# Altium schematic symbol library Analog Devices Amplifiers and Linear Comparators.SchLib: 160 symbols (part 8 of 9)
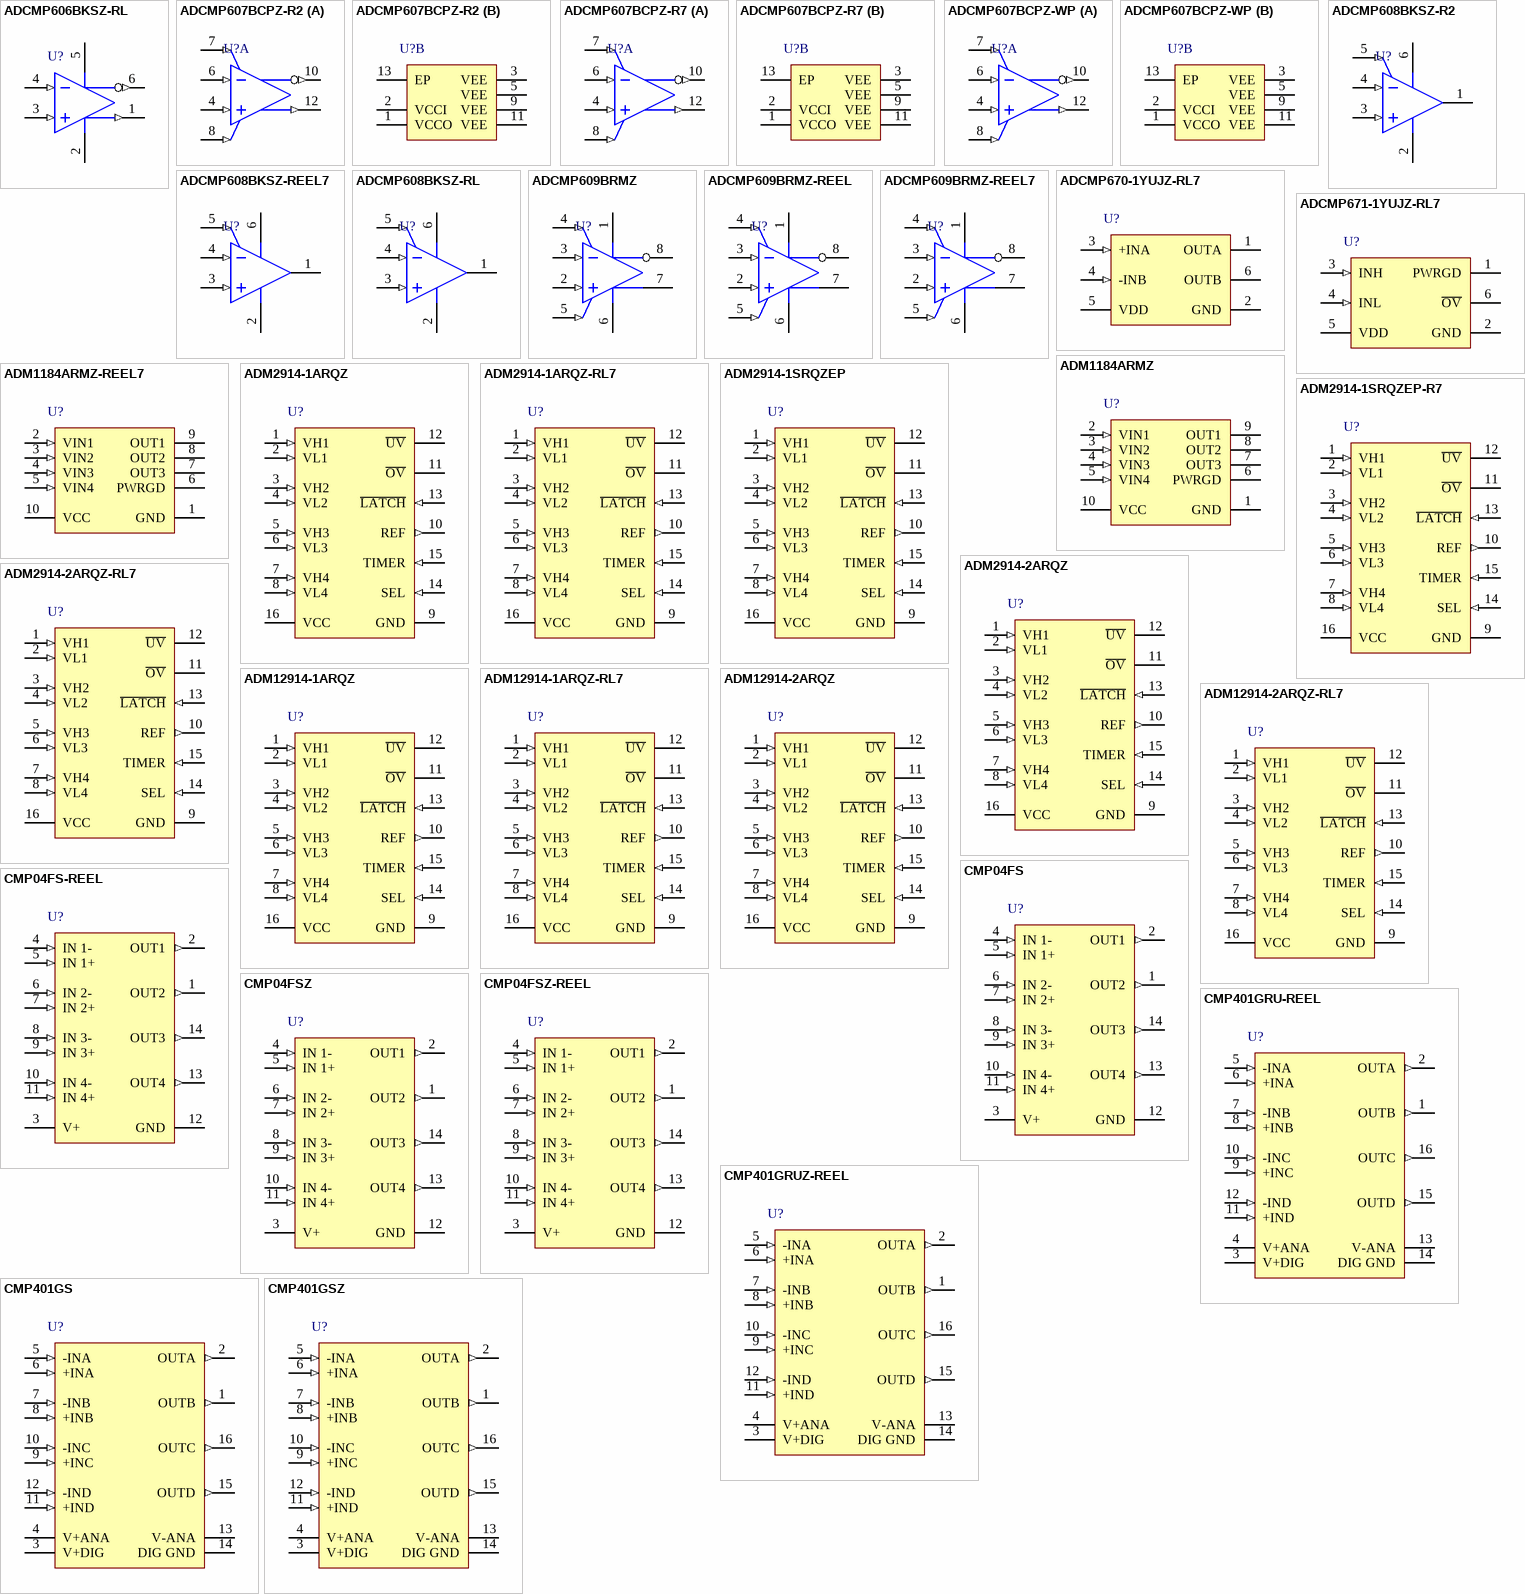
[diagram p14: symbols ADCMP606BKSZ-RL to CMP401GSZ]

## ADCMP607BCPZ-WP
designator U?
Rail-to-Rail, Very Fast, Single-Supply CML Comparator, 2.5 to 5.5 V, 1.25 ns Delay, Industrial, 12-pin QFN (CP-12-1), Tray; Manufacturer: Analog Devices; PartNumber: ADCMP607BCPZ-WP; Input Range (V): -0.2 to VCC+0.2; Total Power (mW): 62mW; DatasheetVersion: Rev. A; PackageReference: CP-12-1; PackageDescription: 12-Pin Lead Frame Chip Scale Package, Body 3 x 3 mm, Pitch 0.5 mm; Supplier 1: Digi-Key; Supplier Part Number 1: ADCMP607BCPZ-WP-ND; Supplier 2: Mouser; Supplier Part Number 2: 584-ADCMP607BCPZ-WP; Packing: Tray; Voltage Supply (V): 2.5 to 5.5; Mounting Technology: Surface Mount; Code_JEDEC: MO-220-VEED-1; ComponentLink1Description: Manufacturer URL; ComponentLink1URL: http://www.analog.com/en/index.html; ComponentLink2Description: Datasheet; ComponentLink2URL: http://www.analog.com/static/imported-files/data_sheets/ADCMP606_607.pdf; ComponentLink3Description: Package Specification; ComponentLink3URL: http://www.analog.com/static/imported-files/packages/CP_12_1.pdf; ComponentLink4Description: URL Link1; ComponentLink4URL: Product URL:http://www.analog.com/en/special-linear-functions/comparators/adcmp607/products/product.html
footprint ADI-CP-12-1_N (QFN, 12-Leads, Body 3x3mm, Pitch 0.5mm, Thermal Pad 1.3x1.3mm, IPC Medium Density)
footprint ADI-CP-12-1_L (QFN, 12-Leads, Body 3x3mm, Pitch 0.5mm, Thermal Pad 1.3x1.3mm, IPC High Density)
footprint ADI-CP-12-1_M (QFN, 12-Leads, Body 3x3mm, Pitch 0.5mm, Thermal Pad 1.3x1.3mm, IPC Low Density)
part A pins: 4 VP (in) "Noninverting Analog Input.", 6 VN (in) "Inverting Analog Input.", 7 SDN (in) "Shutdown. Drive this pin low to shut down the device.", 8 LE/HYS (in) "Latch/Hysteresis Control. Bias with resistor or current for hysteresis; drive low to latch.", 10 ~{Q} (out) "Inverting Output. Q\ is at Logic low if the analog voltage at the noninverting input, VP, is greater than the analog voltage at the inverting input, VN, if the comparator is in compare mode.", 12 Q (out) "Noninverting Output. Q is at Logic high if the analog voltage at the noninverting input, VP, is greater than the analog voltage at the inverting input, VN, if the comparator is in compare mode."
part B pins: 1 VCCO (power) "Output Section Supply.", 2 VCCI (power) "Input Section Supply.", 3 VEE (power) "Negative Supply Voltages.", 5 VEE (power) "Negative Supply Voltages.", 9 VEE (power) "Negative Supply Voltages.", 11 VEE (power) "Negative Supply Voltages.", 13 EP "The metallic back surface of the package is electrically connected to VEE. It can be left floating because Pin 3, Pin 5, Pin 9, and Pin 11 provide adequate electrical connection. It can also be soldered to the application (See Datasheet)"

## ADCMP608BKSZ-R2
designator U?
Rail-to-Rail, Fast, Low Power, Single-Supply TTL / CMOS Comparator, 2.5 to 5.5 V, 30 ns Delay, Industrial, 6-pin SOT23 (KS-6), Reel; Manufacturer: Analog Devices; PartNumber: ADCMP608BKSZ-R2; Input Range (V): -0.2 to VCC+0.2; Supply Current: 500uA; DatasheetVersion: Rev. 0; PackageVersion: 072809-A, 07/2009; PackageReference: KS-6; PackageDescription: 6-Pin Thin Shrink Small Outline Transistor Package, Body 2 x 1.25 mm, Pitch 0.65 mm; Supplier 1: Digi-Key; Supplier Part Number 1: ADCMP608BKSZ-R2TR-ND; Supplier 2: Digi-Key; Supplier Part Number 2: ADCMP608BKSZ-R2CT-ND; Supplier 3: Digi-Key; Supplier Part Number 3: ADCMP608BKSZ-R2DKR-ND; Supplier 4: Farnell; Supplier Part Number 4: 1331032RL; Supplier 5: Farnell; Supplier Part Number 5: 1331032; Supplier 6: Mouser; Supplier Part Number 6: 584-ADCMP608BKSZ-R2; Packing: Reel; Voltage Supply (V): 2.5 to 5.5; Mounting Technology: Surface Mount; Code_JEDEC: MO-203-AB; ComponentLink1Description: Manufacturer URL; ComponentLink1URL: http://www.analog.com/en/index.html; ComponentLink2Description: Datasheet; ComponentLink2URL: http://www.analog.com/static/imported-files/data_sheets/ADCMP608.pdf; ComponentLink3Description: Package Specification; ComponentLink3URL: http://www.analog.com/static/imported-files/packages/PKG_PDF/SC70(KS)/KS_6.pdf; ComponentLink4Description: URL Link1; ComponentLink4URL: Product URL:http://www.analog.com/en/special-linear-functions/comparators/adcmp608/products/product.html
footprint ADI-KS-6_N (SOT23, 6-Leads, Body 2x1.25mm, Pitch 0.65mm, IPC Medium Density)
footprint ADI-KS-6_L (SOT23, 6-Leads, Body 2x1.25mm, Pitch 0.65mm, IPC High Density)
footprint ADI-KS-6_M (SOT23, 6-Leads, Body 2x1.25mm, Pitch 0.65mm, IPC Low Density)
pins: 1 Q (hiz) "Noninverting Output. Q is at logic high if the analog voltage at the noninverting input, VP, is greater than the analog voltage at the inverting input, VN.", 2 VEE (power) "Negative Supply Voltage.", 3 VP (in) "Noninverting Analog Input.", 4 VN (in) "Inverting Analog Input.", 5 SDN (in) "Shutdown. Drive this pin low to shut down the device.", 6 VCC (power) "VCC Supply."

## ADCMP608BKSZ-REEL7
designator U?
Rail-to-Rail, Fast, Low Power, Single-Supply TTL / CMOS Comparator, 2.5 to 5.5 V, 30 ns Delay, Industrial, 6-pin SOT23 (KS-6), Reel; Manufacturer: Analog Devices; PartNumber: ADCMP608BKSZ-REEL7; Input Range (V): -0.2 to VCC+0.2; Supply Current: 500uA; DatasheetVersion: Rev. 0; PackageVersion: 072809-A, 07/2009; PackageReference: KS-6; PackageDescription: 6-Pin Thin Shrink Small Outline Transistor Package, Body 2 x 1.25 mm, Pitch 0.65 mm; Supplier 1: Digi-Key; Supplier Part Number 1: ADCMP608BKSZ-REEL7TR-ND; Supplier 2: Digi-Key; Supplier Part Number 2: ADCMP608BKSZ-REEL7CT-ND; Supplier 3: Digi-Key; Supplier Part Number 3: ADCMP608BKSZ-REEL7DKR-ND; Supplier 4: Mouser; Supplier Part Number 4: 584-ADCMP608BKSZR7; Packing: Reel; Voltage Supply (V): 2.5 to 5.5; Mounting Technology: Surface Mount; Code_JEDEC: MO-203-AB; ComponentLink1Description: Manufacturer URL; ComponentLink1URL: http://www.analog.com/en/index.html; ComponentLink2Description: Datasheet; ComponentLink2URL: http://www.analog.com/static/imported-files/data_sheets/ADCMP608.pdf; ComponentLink3Description: Package Specification; ComponentLink3URL: http://www.analog.com/static/imported-files/packages/PKG_PDF/SC70(KS)/KS_6.pdf; ComponentLink4Description: URL Link1; ComponentLink4URL: Product URL:http://www.analog.com/en/special-linear-functions/comparators/adcmp608/products/product.html
footprint ADI-KS-6_N (SOT23, 6-Leads, Body 2x1.25mm, Pitch 0.65mm, IPC Medium Density)
footprint ADI-KS-6_L (SOT23, 6-Leads, Body 2x1.25mm, Pitch 0.65mm, IPC High Density)
footprint ADI-KS-6_M (SOT23, 6-Leads, Body 2x1.25mm, Pitch 0.65mm, IPC Low Density)
pins: 1 Q (hiz) "Noninverting Output. Q is at logic high if the analog voltage at the noninverting input, VP, is greater than the analog voltage at the inverting input, VN.", 2 VEE (power) "Negative Supply Voltage.", 3 VP (in) "Noninverting Analog Input.", 4 VN (in) "Inverting Analog Input.", 5 SDN (in) "Shutdown. Drive this pin low to shut down the device.", 6 VCC (power) "VCC Supply."

## ADCMP608BKSZ-RL
designator U?
Rail-to-Rail, Fast, Low Power, Single-Supply TTL / CMOS Comparator, 2.5 to 5.5 V, 30 ns Delay, Industrial, 6-pin SOT23 (KS-6), Reel; Manufacturer: Analog Devices; PartNumber: ADCMP608BKSZ-RL; Input Range (V): -0.2 to VCC+0.2; Supply Current: 500uA; DatasheetVersion: Rev. 0; PackageVersion: 072809-A, 07/2009; PackageReference: KS-6; PackageDescription: 6-Pin Thin Shrink Small Outline Transistor Package, Body 2 x 1.25 mm, Pitch 0.65 mm; Supplier 1: Digi-Key; Supplier Part Number 1: ADCMP608BKSZ-RL-ND; Supplier 2: Mouser; Supplier Part Number 2: 584-ADCMP608BKSZ-R; Packing: Reel; Voltage Supply (V): 2.5 to 5.5; Mounting Technology: Surface Mount; Code_JEDEC: MO-203-AB; ComponentLink1Description: Manufacturer URL; ComponentLink1URL: http://www.analog.com/en/index.html; ComponentLink2Description: Datasheet; ComponentLink2URL: http://www.analog.com/static/imported-files/data_sheets/ADCMP608.pdf; ComponentLink3Description: Package Specification; ComponentLink3URL: http://www.analog.com/static/imported-files/packages/PKG_PDF/SC70(KS)/KS_6.pdf; ComponentLink4Description: URL Link1; ComponentLink4URL: Product URL:http://www.analog.com/en/special-linear-functions/comparators/adcmp608/products/product.html
footprint ADI-KS-6_N (SOT23, 6-Leads, Body 2x1.25mm, Pitch 0.65mm, IPC Medium Density)
footprint ADI-KS-6_L (SOT23, 6-Leads, Body 2x1.25mm, Pitch 0.65mm, IPC High Density)
footprint ADI-KS-6_M (SOT23, 6-Leads, Body 2x1.25mm, Pitch 0.65mm, IPC Low Density)
pins: 1 Q (hiz) "Noninverting Output. Q is at logic high if the analog voltage at the noninverting input, VP, is greater than the analog voltage at the inverting input, VN.", 2 VEE (power) "Negative Supply Voltage.", 3 VP (in) "Noninverting Analog Input.", 4 VN (in) "Inverting Analog Input.", 5 SDN (in) "Shutdown. Drive this pin low to shut down the device.", 6 VCC (power) "VCC Supply."

## ADCMP609BRMZ
designator U?
Rail-to-Rail, Fast, Low Power, Single-Supply TTL / CMOS Comparator, 2.5 to 5.5 V, 30 ns Delay, Industrial, 8-pin SOP (RM-8), Tube; Manufacturer: Analog Devices; PartNumber: ADCMP609BRMZ; Input Range (V): -0.2 to VCC+0.2; Supply Current: 500uA; DatasheetVersion: Rev. A; PackageVersion: Aug-05; PackageReference: RM-8; PackageDescription: 8-Pin Mini Small Outline Package, Body 3 x 3 mm, Pitch 0.65 mm; Supplier 1: Digi-Key; Supplier Part Number 1: ADCMP609BRMZ-ND; Supplier 2: Farnell; Supplier Part Number 2: 1331033; Supplier 3: Mouser; Supplier Part Number 3: 584-ADCMP609BRMZ; Packing: Tube; Voltage Supply (V): 2.5 to 5.5; Mounting Technology: Surface Mount; Code_JEDEC: MO-187-AA; ComponentLink1Description: Manufacturer URL; ComponentLink1URL: http://www.analog.com/en/index.html; ComponentLink2Description: Datasheet; ComponentLink2URL: http://www.analog.com/static/imported-files/data_sheets/ADCMP609.pdf; ComponentLink3Description: Package Specification; ComponentLink3URL: http://www.analog.com/static/imported-files/packages/PKG_PDF/MSOP%28RM%29/RM_8.pdf; ComponentLink4Description: URL Link1; ComponentLink4URL: Product URL:http://www.analog.com/en/special-linear-functions/comparators/adcmp609/products/product.html
footprint ADI-RM-8_N (SOP, 8-Leads, Body 3x3mm, Pitch 0.65mm, IPC Medium Density)
footprint ADI-RM-8_L (SOP, 8-Leads, Body 3x3mm, Pitch 0.65mm, IPC High Density)
footprint ADI-RM-8_M (SOP, 8-Leads, Body 3x3mm, Pitch 0.65mm, IPC Low Density)
pins: 1 VCC (power) "VCC Supply.", 2 VP (in) "Noninverting Analog Input.", 3 VN (in) "Inverting Analog Input.", 4 SDN (in) "Shutdown. Drive this pin low to shut down the device.", 5 HYS (in) "Hysteresis Control. Bias with resistor or current source for hysteresis.", 6 VEE (power) "Negative Supply Voltage.", 7 Q (hiz) "Noninverting Output. Q is at logic high if the analog voltage at the noninverting input (VP) is greater than the analog voltage at the inverting input (VN), provided the comparator is in compare mode.", 8 ~{Q} (hiz) "Inverting Output. Q\ is at logic low if the analog voltage at the noninverting input (VP) is greater than the analog voltage at the inverting input (VN), provided the comparator is in compare mode."

## ADCMP609BRMZ-REEL
designator U?
Rail-to-Rail, Fast, Low Power, Single-Supply TTL / CMOS Comparator, 2.5 to 5.5 V, 30 ns Delay, Industrial, 8-pin SOP (RM-8), Reel; Manufacturer: Analog Devices; PartNumber: ADCMP609BRMZ-REEL; Input Range (V): -0.2 to VCC+0.2; Supply Current: 500uA; DatasheetVersion: Rev. A; PackageVersion: Aug-05; PackageReference: RM-8; PackageDescription: 8-Pin Mini Small Outline Package, Body 3 x 3 mm, Pitch 0.65 mm; Supplier 1: Digi-Key; Supplier Part Number 1: ADCMP609BRMZ-REEL-ND; Supplier 2: Mouser; Supplier Part Number 2: 584-ADCMP609BRMZ-R; Packing: Reel; Voltage Supply (V): 2.5 to 5.5; Mounting Technology: Surface Mount; Code_JEDEC: MO-187-AA; ComponentLink1Description: Manufacturer URL; ComponentLink1URL: http://www.analog.com/en/index.html; ComponentLink2Description: Datasheet; ComponentLink2URL: http://www.analog.com/static/imported-files/data_sheets/ADCMP609.pdf; ComponentLink3Description: Package Specification; ComponentLink3URL: http://www.analog.com/static/imported-files/packages/PKG_PDF/MSOP%28RM%29/RM_8.pdf; ComponentLink4Description: URL Link1; ComponentLink4URL: Product URL:http://www.analog.com/en/special-linear-functions/comparators/adcmp609/products/product.html
footprint ADI-RM-8_N (SOP, 8-Leads, Body 3x3mm, Pitch 0.65mm, IPC Medium Density)
footprint ADI-RM-8_L (SOP, 8-Leads, Body 3x3mm, Pitch 0.65mm, IPC High Density)
footprint ADI-RM-8_M (SOP, 8-Leads, Body 3x3mm, Pitch 0.65mm, IPC Low Density)
pins: 1 VCC (power) "VCC Supply.", 2 VP (in) "Noninverting Analog Input.", 3 VN (in) "Inverting Analog Input.", 4 SDN (in) "Shutdown. Drive this pin low to shut down the device.", 5 HYS (in) "Hysteresis Control. Bias with resistor or current source for hysteresis.", 6 VEE (power) "Negative Supply Voltage.", 7 Q (hiz) "Noninverting Output. Q is at logic high if the analog voltage at the noninverting input (VP) is greater than the analog voltage at the inverting input (VN), provided the comparator is in compare mode.", 8 ~{Q} (hiz) "Inverting Output. Q\ is at logic low if the analog voltage at the noninverting input (VP) is greater than the analog voltage at the inverting input (VN), provided the comparator is in compare mode."

## ADCMP609BRMZ-REEL7
designator U?
Rail-to-Rail, Fast, Low Power, Single-Supply TTL / CMOS Comparator, 2.5 to 5.5 V, 30 ns Delay, Industrial, 8-pin SOP (RM-8), Reel; Manufacturer: Analog Devices; PartNumber: ADCMP609BRMZ-REEL7; Input Range (V): -0.2 to VCC+0.2; Supply Current: 500uA; DatasheetVersion: Rev. A; PackageVersion: Aug-05; PackageReference: RM-8; PackageDescription: 8-Pin Mini Small Outline Package, Body 3 x 3 mm, Pitch 0.65 mm; Supplier 1: Digi-Key; Supplier Part Number 1: ADCMP609BRMZ-REEL7TR-ND; Supplier 2: Digi-Key; Supplier Part Number 2: ADCMP609BRMZ-REEL7CT-ND; Supplier 3: Digi-Key; Supplier Part Number 3: ADCMP609BRMZ-REEL7DKR-ND; Supplier 4: Mouser; Supplier Part Number 4: 584-ADCMP609BRMZR7; Packing: Reel; Voltage Supply (V): 2.5 to 5.5; Mounting Technology: Surface Mount; Code_JEDEC: MO-187-AA; ComponentLink1Description: Manufacturer URL; ComponentLink1URL: http://www.analog.com/en/index.html; ComponentLink2Description: Datasheet; ComponentLink2URL: http://www.analog.com/static/imported-files/data_sheets/ADCMP609.pdf; ComponentLink3Description: Package Specification; ComponentLink3URL: http://www.analog.com/static/imported-files/packages/PKG_PDF/MSOP%28RM%29/RM_8.pdf; ComponentLink4Description: URL Link1; ComponentLink4URL: Product URL:http://www.analog.com/en/special-linear-functions/comparators/adcmp609/products/product.html
footprint ADI-RM-8_N (SOP, 8-Leads, Body 3x3mm, Pitch 0.65mm, IPC Medium Density)
footprint ADI-RM-8_L (SOP, 8-Leads, Body 3x3mm, Pitch 0.65mm, IPC High Density)
footprint ADI-RM-8_M (SOP, 8-Leads, Body 3x3mm, Pitch 0.65mm, IPC Low Density)
pins: 1 VCC (power) "VCC Supply.", 2 VP (in) "Noninverting Analog Input.", 3 VN (in) "Inverting Analog Input.", 4 SDN (in) "Shutdown. Drive this pin low to shut down the device.", 5 HYS (in) "Hysteresis Control. Bias with resistor or current source for hysteresis.", 6 VEE (power) "Negative Supply Voltage.", 7 Q (hiz) "Noninverting Output. Q is at logic high if the analog voltage at the noninverting input (VP) is greater than the analog voltage at the inverting input (VN), provided the comparator is in compare mode.", 8 ~{Q} (hiz) "Inverting Output. Q\ is at logic low if the analog voltage at the noninverting input (VP) is greater than the analog voltage at the inverting input (VN), provided the comparator is in compare mode."

## ADCMP670-1YUJZ-RL7
designator U?
Dual Low Power 1.5% Comparator With 400 mV Reference, 1.7 to 5.5 V, 10 us Delay, Commercial, 6-pin SOT23 (UJ-6), Reel; Manufacturer: Analog Devices; PartNumber: ADCMP670-1YUJZ-RL7; Input Range (V): 0 to VCC; Internal Reference: Yes; Supply Current: 6.5uA; DatasheetVersion: Rev. A; PackageVersion: 12/29/2004; PackageReference: UJ-6; PackageDescription: 6-Pin Thin Small Outline Transistor Package, Body 2.9 x 1.6 mm, Pitch 0.95 mm; Supplier 1: Digi-Key; Supplier Part Number 1: ADCMP670-1YUJZ-RL7TR-ND; Supplier 2: Digi-Key; Supplier Part Number 2: ADCMP670-1YUJZ-RL7CT-ND; Supplier 3: Digi-Key; Supplier Part Number 3: ADCMP670-1YUJZ-RL7DKR-ND; Supplier 4: Farnell; Supplier Part Number 4: 2094202; Supplier 5: Mouser; Supplier Part Number 5: 584-ADCMP670-1YUJZR7; Packing: Reel; Voltage Supply (V): 1.7 to 5.5; Mounting Technology: Surface Mount; Code_JEDEC: MO-193-AA; ComponentLink1Description: Manufacturer URL; ComponentLink1URL: http://www.analog.com/en/index.html; ComponentLink2Description: Datasheet; ComponentLink2URL: http://www.analog.com/static/imported-files/data_sheets/ADCMP670.pdf; ComponentLink3Description: Package Specification; ComponentLink3URL: http://www.analog.com/static/imported-files/packages/PKG_PDF/TSOT(UJ)/UJ_6.pdf; ComponentLink4Description: URL Link1; ComponentLink4URL: Product URL:http://www.analog.com/en/special-linear-functions/comparators/adcmp670/products/product.html; ComponentLink5Description: URL Link2; ComponentLink5URL: Reference Circuit:http://www.analog.com/en/special-linear-functions/comparators/adcmp670/products/product.html#product-recommendations
footprint ADI-UJ-6_N (SOT23, 6-Leads, Body 2.9x1.6mm, Pitch 0.95mm, IPC Medium Density)
footprint ADI-UJ-6_L (SOT23, 6-Leads, Body 2.9x1.6mm, Pitch 0.95mm, IPC High Density)
footprint ADI-UJ-6_M (SOT23, 6-Leads, Body 2.9x1.6mm, Pitch 0.95mm, IPC Low Density)
pins: 1 OUTA (oc) "Open-Drain Output for Comparator A.", 2 GND (power) "Ground.", 3 +INA (in) "Monitors analog input voltage on Comparator A. Connected to noninverting input. The other input of Comparator A is connected to a 400 mV reference.", 4 -INB (in) "Monitors analog input voltage on Comparator B. Connected to inverting input. The other input of Comparator B is connected to a 400 mV reference.", 5 VDD (power) "Power Supply Pin.", 6 OUTB (oc) "Open-Drain Output for Comparator B."

## ADCMP671-1YUJZ-RL7
designator U?
Low Power, Adjustable UV / OV Monitor with 400 mV, +/-0.275% Reference, 1.7 to 5.5 V, 10 us Delay, Industrial, 6-pin SOT23 (UJ-6), Reel; Manufacturer: Analog Devices; PartNumber: ADCMP671-1YUJZ-RL7; Internal Reference: Yes; Supply Current: 6.5uA; DatasheetVersion: Rev. 0; PackageVersion: 12/29/2004; PackageReference: UJ-6; PackageDescription: 6-Pin Thin Small Outline Transistor Package, Body 2.9 x 1.6 mm, Pitch 0.95 mm; Supplier 1: Digi-Key; Supplier Part Number 1: ADCMP671-1YUJZ-RL7TR-ND; Supplier 2: Digi-Key; Supplier Part Number 2: ADCMP671-1YUJZ-RL7CT-ND; Supplier 3: Digi-Key; Supplier Part Number 3: ADCMP671-1YUJZ-RL7DKR-ND; Supplier 4: Farnell; Supplier Part Number 4: 2376807; Supplier 5: Farnell; Supplier Part Number 5: 2102381; Supplier 6: Mouser; Supplier Part Number 6: 584-ADCMP671-1YUJZR7; Packing: Reel; Voltage Supply (V): 1.7 to 5.5; Mounting Technology: Surface Mount; Code_JEDEC: MO-193-AA; ComponentLink1Description: Manufacturer URL; ComponentLink1URL: http://www.analog.com/en/index.html; ComponentLink2Description: Datasheet; ComponentLink2URL: http://www.analog.com/static/imported-files/data_sheets/ADCMP671.pdf; ComponentLink3Description: Package Specification; ComponentLink3URL: http://www.analog.com/static/imported-files/packages/PKG_PDF/TSOT(UJ)/UJ_6.pdf; ComponentLink4Description: URL Link1; ComponentLink4URL: Product URL:http://www.analog.com/en/special-linear-functions/comparators/adcmp671/products/product.html
footprint ADI-UJ-6_N (SOT23, 6-Leads, Body 2.9x1.6mm, Pitch 0.95mm, IPC Medium Density)
footprint ADI-UJ-6_L (SOT23, 6-Leads, Body 2.9x1.6mm, Pitch 0.95mm, IPC High Density)
footprint ADI-UJ-6_M (SOT23, 6-Leads, Body 2.9x1.6mm, Pitch 0.95mm, IPC Low Density)
pins: 1 PWRGD (oc) "Open-Drain Active High Power Good Output. It asserts when the input falls within the UV and OV window, for example, INH high and INL low.", 2 GND (power) "Ground.", 3 INH (in) "Monitors for Supply Undervoltage Fault Through an External Resistor Divider Network. It is internally connected to the noninverting input of a comparator. The other input of the comparator is connected to a 400 mV reference.", 4 INL (in) "Monitors for Supply Overvoltage Fault Through an External Resistor Divider Network. It is internally connected to the inverting input of a comparator. The other input of the comparator is connected to a 400 mV reference.", 5 VDD (power) "Power Supply Pin.", 6 ~{OV} (oc) "Open-Drain Output Active Low Overvoltage Fault Indication Output. It asserts when there is an overvoltage fault, for example, INL high."

## ADM1184ARMZ
designator U?
0.8% Accurate Quad Voltage Monitor, 2.7 to 5.5 V, 30 us Delay, Industrial, 10-pin SOP (RM-10), Tube; Manufacturer: Analog Devices; PartNumber: ADM1184ARMZ; Input Range (V): 0 to VCC; Internal Reference: Yes; Supply Current: 24uA; DatasheetVersion: Rev. 0; PackageVersion: Aug-05; PackageReference: RM-10; PackageDescription: 10-Pin Mini Small Outline Package, Body 3 x 3 mm, Pitch 0.5 mm; Supplier 1: Digi-Key; Supplier Part Number 1: ADM1184ARMZ-ND; Supplier 2: Farnell; Supplier Part Number 2: 1593536; Supplier 3: Mouser; Supplier Part Number 3: 584-ADM1184ARMZ; Packing: Tube; Voltage Supply (V): 2.7 to 5.5; Mounting Technology: Surface Mount; Code_JEDEC: MO-187-BA; ComponentLink1Description: Manufacturer URL; ComponentLink1URL: http://www.analog.com/en/index.html; ComponentLink2Description: Datasheet; ComponentLink2URL: http://www.analog.com/static/imported-files/data_sheets/ADM1184.pdf; ComponentLink3Description: Package Specification; ComponentLink3URL: http://www.analog.com/static/imported-files/packages/PKG_PDF/MSOP%28RM%29/RM_10.pdf; ComponentLink4Description: URL Link1; ComponentLink4URL: Product URL:http://www.analog.com/en/special-linear-functions/comparators/adm1184/products/product.html
footprint ADI-RM-10_N (SOP, 10-Leads, Body 3x3mm, Pitch 0.5mm, IPC Medium Density)
footprint ADI-RM-10_L (SOP, 10-Leads, Body 3x3mm, Pitch 0.5mm, IPC High Density)
footprint ADI-RM-10_M (SOP, 10-Leads, Body 3x3mm, Pitch 0.5mm, IPC Low Density)
pins: 1 GND (power) "Chip Ground Pin.", 2 VIN1 (in) "Noninverting Input of Comparator 1. The voltage on this pin is compared with a 0.6 V reference. Can be used to monitor a voltage rail via a resistor divider.", 3 VIN2 (in) "Noninverting Input of Comparator 2. The voltage on this pin is compared with a 0.6 V reference. Can be used to monitor a voltage rail via a resistor divider.", 4 VIN3 (in) "Noninverting Input of Comparator 3. The voltage on this pin is compared with a 0.6 V reference. Can be used to monitor a voltage rail via a resistor divider.", 5 VIN4 (in) "Noninverting Input of Comparator 4. The voltage on this pin is compared with a 0.6 V reference. Can be used to monitor a voltage rail via a resistor divider.", 6 PWRGD (oc) "Active High, Open-Drain Output. When the voltage on each VINx input exceeds 0.6 V, PWRGD is asserted after a 190 ms delay. Once PWRGD has been asserted, if the voltage monitored by VIN1, VIN2, VIN3, or VIN4 falls below 0.6 (See Datasheet)", 7 OUT3 (oc) "Active High, Open-Drain Output. When the voltage on VIN3 exceeds 0.6 V, OUT3 is asserted. OUT3 remains asserted until the voltage monitored by VIN3 falls below 0.6 V, and then it is driven low.", 8 OUT2 (oc) "Active High, Open-Drain Output. When the voltage on VIN2 exceeds 0.6 V, OUT2 is asserted. OUT2 remains asserted until the voltage monitored by VIN2 falls below 0.6 V, and then it is driven low.", 9 OUT1 (oc) "Active High, Open-Drain Output. When the voltage on VIN1 exceeds 0.6 V, OUT1 is asserted. OUT1 remains asserted until the voltage monitored by VIN1 falls below 0.6 V, and then it is driven low.", 10 VCC (power) "Positive Supply Input Pin. The operating supply voltage range is 2.7 V to 5.5 V."

## ADM1184ARMZ-REEL7
designator U?
0.8% Accurate Quad Voltage Monitor, 2.7 to 5.5 V, 30 us Delay, Industrial, 10-pin SOP (RM-10), Reel; Manufacturer: Analog Devices; PartNumber: ADM1184ARMZ-REEL7; Input Range (V): 0 to VCC; Internal Reference: Yes; Supply Current: 24uA; DatasheetVersion: Rev. 0; PackageVersion: Aug-05; PackageReference: RM-10; PackageDescription: 10-Pin Mini Small Outline Package, Body 3 x 3 mm, Pitch 0.5 mm; Supplier 1: Digi-Key; Supplier Part Number 1: ADM1184ARMZ-REEL7-ND; Supplier 2: Mouser; Supplier Part Number 2: 584-ADM1184ARMZ-R7; Packing: Reel; Voltage Supply (V): 2.7 to 5.5; Mounting Technology: Surface Mount; Code_JEDEC: MO-187-BA; ComponentLink1Description: Manufacturer URL; ComponentLink1URL: http://www.analog.com/en/index.html; ComponentLink2Description: Datasheet; ComponentLink2URL: http://www.analog.com/static/imported-files/data_sheets/ADM1184.pdf; ComponentLink3Description: Package Specification; ComponentLink3URL: http://www.analog.com/static/imported-files/packages/PKG_PDF/MSOP%28RM%29/RM_10.pdf; ComponentLink4Description: URL Link1; ComponentLink4URL: Product URL:http://www.analog.com/en/special-linear-functions/comparators/adm1184/products/product.html
footprint ADI-RM-10_N (SOP, 10-Leads, Body 3x3mm, Pitch 0.5mm, IPC Medium Density)
footprint ADI-RM-10_L (SOP, 10-Leads, Body 3x3mm, Pitch 0.5mm, IPC High Density)
footprint ADI-RM-10_M (SOP, 10-Leads, Body 3x3mm, Pitch 0.5mm, IPC Low Density)
pins: 1 GND (power) "Chip Ground Pin.", 2 VIN1 (in) "Noninverting Input of Comparator 1. The voltage on this pin is compared with a 0.6 V reference. Can be used to monitor a voltage rail via a resistor divider.", 3 VIN2 (in) "Noninverting Input of Comparator 2. The voltage on this pin is compared with a 0.6 V reference. Can be used to monitor a voltage rail via a resistor divider.", 4 VIN3 (in) "Noninverting Input of Comparator 3. The voltage on this pin is compared with a 0.6 V reference. Can be used to monitor a voltage rail via a resistor divider.", 5 VIN4 (in) "Noninverting Input of Comparator 4. The voltage on this pin is compared with a 0.6 V reference. Can be used to monitor a voltage rail via a resistor divider.", 6 PWRGD (oc) "Active High, Open-Drain Output. When the voltage on each VINx input exceeds 0.6 V, PWRGD is asserted after a 190 ms delay. Once PWRGD has been asserted, if the voltage monitored by VIN1, VIN2, VIN3, or VIN4 falls below 0.6 (See Datasheet)", 7 OUT3 (oc) "Active High, Open-Drain Output. When the voltage on VIN3 exceeds 0.6 V, OUT3 is asserted. OUT3 remains asserted until the voltage monitored by VIN3 falls below 0.6 V, and then it is driven low.", 8 OUT2 (oc) "Active High, Open-Drain Output. When the voltage on VIN2 exceeds 0.6 V, OUT2 is asserted. OUT2 remains asserted until the voltage monitored by VIN2 falls below 0.6 V, and then it is driven low.", 9 OUT1 (oc) "Active High, Open-Drain Output. When the voltage on VIN1 exceeds 0.6 V, OUT1 is asserted. OUT1 remains asserted until the voltage monitored by VIN1 falls below 0.6 V, and then it is driven low.", 10 VCC (power) "Positive Supply Input Pin. The operating supply voltage range is 2.7 V to 5.5 V."

## ADM2914-1ARQZ
designator U?
Quad UV / OV Positive / Negative Voltage Supervisor, 125 us Delay, Industrial, 16-pin SOP (RQ-16), Tube; Manufacturer: Analog Devices; PartNumber: ADM2914-1ARQZ; Input Range (V): 0 to VCC; Internal Reference: Yes; Supply Current: 62uA; Voltage Supply (V): 2.3 to Shunt; DatasheetVersion: Rev. B; PackageVersion: Aug-05; PackageReference: RQ-16; PackageDescription: 16-Pin Shrink Small Outline Package, Body 4.9 x 3.9 mm, Pitch 0.64 mm; Supplier 1: Digi-Key; Supplier Part Number 1: ADM2914-1ARQZ-ND; Supplier 2: Mouser; Supplier Part Number 2: 584-ADM2914-1ARQZ; Packing: Tube; Mounting Technology: Surface Mount; Code_JEDEC: MO-137-AB; ComponentLink1Description: Manufacturer URL; ComponentLink1URL: http://www.analog.com/en/index.html; ComponentLink2Description: Datasheet; ComponentLink2URL: http://www.analog.com/static/imported-files/data_sheets/ADM2914.pdf; ComponentLink3Description: Package Specification; ComponentLink3URL: http://www.analog.com/static/imported-files/packages/5595549651201762937RQ_16.pdf; ComponentLink4Description: URL Link1; ComponentLink4URL: Product URL:http://www.analog.com/en/special-linear-functions/comparators/adm2914/products/product.html
footprint ADI-RQ-16_N (SOP, 16-Leads, Body 4.9x3.9mm, Pitch 0.64mm, IPC Medium Density)
footprint ADI-RQ-16_L (SOP, 16-Leads, Body 4.9x3.9mm, Pitch 0.64mm, IPC High Density)
footprint ADI-RQ-16_M (SOP, 16-Leads, Body 4.9x3.9mm, Pitch 0.64mm, IPC Low Density)
pins: 1 VH1 (in) "Voltage High Input 1. If the voltage monitored by VH1 or VH2 drops below 0.5 V, an undervoltage condition is detected. Connect to VCC when not in use.", 2 VL1 (in) "Voltage Low Input 1. If the voltage monitored by VL1 or VL2 rises above 0.5 V, an overvoltage condition is detected. Tie to GND when not in use.", 3 VH2 (in) "Voltage High Input 2. If the voltage monitored by VH1 or VH2 drops below 0.5 V, an undervoltage condition is detected. Connect to VCC when not in use.", 4 VL2 (in) "Voltage Low Input 2. If the voltage monitored by VL1 or VL2 rises above 0.5 V, an overvoltage condition is detected. Tie to GND when not in use.", 5 VH3 (in) "Voltage High Input 3. The polarity of these inputs is determined by the state of the SEL pin (see Table 5). When the monitored input is configured as a positive voltage and the voltage monitored by VH3 or VH4 drops below 0.5 (See Datasheet)", 6 VL3 (in) "Voltage Low Input 3. The polarity of these inputs is determined by the state of the SEL pin (see Table 5). When the monitored input is configured as a positive voltage and the voltage monitored by VL3 or VL4 rises above 0.5 (See Datasheet)", 7 VH4 (in) "Voltage High Input 4. The polarity of these inputs is determined by the state of the SEL pin (see Table 5). When the monitored input is configured as a positive voltage and the voltage monitored by VH3 or VH4 drops below 0.5 (See Datasheet)", 8 VL4 (in) "Voltage Low Input 4. The polarity of these inputs is determined by the state of the SEL pin (see Table 5). When the monitored input is configured as a positive voltage and the voltage monitored by VL3 or VL4 rises above 0.5 (See Datasheet)", 9 GND (power) "Device Ground.", 10 REF (out) "Buffered Reference Output. This pin is a 1 V reference that is used as an offset when monitoring negative voltages. This pin can source or sink 1 mA, and drive loads up to 1 nF. Larger capacitive loads may lead to (See Datasheet)", 11 ~{OV} (oc) "Overvoltage Reset Output. O\V\ is asserted low if a negative polarity input voltage drops below its associated threshold or if a positive polarity input voltage exceeds its threshold. The ADM2914-1 allows O\V\ to be latched (See Datasheet)", 12 ~{UV} (oc) "Undervoltage Reset Output. U\V\ is asserted low if a negative polarity input voltage exceeds its associated threshold or if a positive polarity input voltage drops below its threshold. U\V\ is held low for an adjustable (See Datasheet)", 13 ~{LATCH} (in) "O\V\ Latch Bypass Input/Clear Pin. When pulled high, the O\V\ latch is cleared. When held high, the O\V\output has the same delay and output characteristics as the U\V\ output. When pulled low, the O\V\ output is latched (See Datasheet)", 14 SEL (in) "Input Polarity Select. This three-state input pin allows the polarity of VH3, VL3, VH4, and VL4 to be configured. Connect to VCC or GND, or leave open to select one of three possible input polarity configurations (see Table (See Datasheet)", 15 TIMER (in) "Adjustable Reset Delay Timer. Connect an external capacitor to the TIMER pin to program the reset timeout delay. Refer to Figure 15 in the Typical Performance Characteristics section. Connect this pin to VCC to bypass the (See Datasheet)", 16 VCC (power) "Supply Voltage. VCC operates as a direct supply for voltages up to 6 V. For voltages greater than 6 V, it operates as a shunt regulator. A dropper resistor must be used in this configuration to limit the current to less than (See Datasheet)"

## ADM2914-1ARQZ-RL7
designator U?
Quad UV / OV Positive / Negative Voltage Supervisor, 125 us Delay, Industrial, 16-pin SOP (RQ-16), Reel; Manufacturer: Analog Devices; PartNumber: ADM2914-1ARQZ-RL7; Input Range (V): 0 to VCC; Internal Reference: Yes; Supply Current: 62uA; Voltage Supply (V): 2.3 to Shunt; DatasheetVersion: Rev. B; PackageVersion: Aug-05; PackageReference: RQ-16; PackageDescription: 16-Pin Shrink Small Outline Package, Body 4.9 x 3.9 mm, Pitch 0.64 mm; Supplier 1: Digi-Key; Supplier Part Number 1: ADM2914-1ARQZ-RL7-ND; Supplier 2: Mouser; Supplier Part Number 2: 584-ADM2914-1ARQZ-R7; Packing: Reel; Mounting Technology: Surface Mount; Code_JEDEC: MO-137-AB; ComponentLink1Description: Manufacturer URL; ComponentLink1URL: http://www.analog.com/en/index.html; ComponentLink2Description: Datasheet; ComponentLink2URL: http://www.analog.com/static/imported-files/data_sheets/ADM2914.pdf; ComponentLink3Description: Package Specification; ComponentLink3URL: http://www.analog.com/static/imported-files/packages/5595549651201762937RQ_16.pdf; ComponentLink4Description: URL Link1; ComponentLink4URL: Product URL:http://www.analog.com/en/special-linear-functions/comparators/adm2914/products/product.html
footprint ADI-RQ-16_N (SOP, 16-Leads, Body 4.9x3.9mm, Pitch 0.64mm, IPC Medium Density)
footprint ADI-RQ-16_L (SOP, 16-Leads, Body 4.9x3.9mm, Pitch 0.64mm, IPC High Density)
footprint ADI-RQ-16_M (SOP, 16-Leads, Body 4.9x3.9mm, Pitch 0.64mm, IPC Low Density)
pins: 1 VH1 (in) "Voltage High Input 1. If the voltage monitored by VH1 or VH2 drops below 0.5 V, an undervoltage condition is detected. Connect to VCC when not in use.", 2 VL1 (in) "Voltage Low Input 1. If the voltage monitored by VL1 or VL2 rises above 0.5 V, an overvoltage condition is detected. Tie to GND when not in use.", 3 VH2 (in) "Voltage High Input 2. If the voltage monitored by VH1 or VH2 drops below 0.5 V, an undervoltage condition is detected. Connect to VCC when not in use.", 4 VL2 (in) "Voltage Low Input 2. If the voltage monitored by VL1 or VL2 rises above 0.5 V, an overvoltage condition is detected. Tie to GND when not in use.", 5 VH3 (in) "Voltage High Input 3. The polarity of these inputs is determined by the state of the SEL pin (see Table 5). When the monitored input is configured as a positive voltage and the voltage monitored by VH3 or VH4 drops below 0.5 (See Datasheet)", 6 VL3 (in) "Voltage Low Input 3. The polarity of these inputs is determined by the state of the SEL pin (see Table 5). When the monitored input is configured as a positive voltage and the voltage monitored by VL3 or VL4 rises above 0.5 (See Datasheet)", 7 VH4 (in) "Voltage High Input 4. The polarity of these inputs is determined by the state of the SEL pin (see Table 5). When the monitored input is configured as a positive voltage and the voltage monitored by VH3 or VH4 drops below 0.5 (See Datasheet)", 8 VL4 (in) "Voltage Low Input 4. The polarity of these inputs is determined by the state of the SEL pin (see Table 5). When the monitored input is configured as a positive voltage and the voltage monitored by VL3 or VL4 rises above 0.5 (See Datasheet)", 9 GND (power) "Device Ground.", 10 REF (out) "Buffered Reference Output. This pin is a 1 V reference that is used as an offset when monitoring negative voltages. This pin can source or sink 1 mA, and drive loads up to 1 nF. Larger capacitive loads may lead to (See Datasheet)", 11 ~{OV} (oc) "Overvoltage Reset Output. O\V\ is asserted low if a negative polarity input voltage drops below its associated threshold or if a positive polarity input voltage exceeds its threshold. The ADM2914-1 allows O\V\ to be latched (See Datasheet)", 12 ~{UV} (oc) "Undervoltage Reset Output. U\V\ is asserted low if a negative polarity input voltage exceeds its associated threshold or if a positive polarity input voltage drops below its threshold. U\V\ is held low for an adjustable (See Datasheet)", 13 ~{LATCH} (in) "O\V\ Latch Bypass Input/Clear Pin. When pulled high, the O\V\ latch is cleared. When held high, the O\V\output has the same delay and output characteristics as the U\V\ output. When pulled low, the O\V\ output is latched (See Datasheet)", 14 SEL (in) "Input Polarity Select. This three-state input pin allows the polarity of VH3, VL3, VH4, and VL4 to be configured. Connect to VCC or GND, or leave open to select one of three possible input polarity configurations (see Table (See Datasheet)", 15 TIMER (in) "Adjustable Reset Delay Timer. Connect an external capacitor to the TIMER pin to program the reset timeout delay. Refer to Figure 15 in the Typical Performance Characteristics section. Connect this pin to VCC to bypass the (See Datasheet)", 16 VCC (power) "Supply Voltage. VCC operates as a direct supply for voltages up to 6 V. For voltages greater than 6 V, it operates as a shunt regulator. A dropper resistor must be used in this configuration to limit the current to less than (See Datasheet)"

## ADM2914-1SRQZEP
designator U?
Quad UV / OV Positive / Negative Voltage Supervisor, 125 us Delay, Industrial, 16-pin SOP (RQ-16), Tube; Manufacturer: Analog Devices; PartNumber: ADM2914-1SRQZEP; Input Range (V): 0 to VCC; Internal Reference: Yes; Supply Current: 62uA; Voltage Supply (V): 2.3 to Shunt; DatasheetVersion: Rev. B; PackageVersion: Aug-05; PackageReference: RQ-16; PackageDescription: 16-Pin Shrink Small Outline Package, Body 4.9 x 3.9 mm, Pitch 0.64 mm; Supplier 1: Digi-Key; Supplier Part Number 1: ADM2914-1SRQZEP-ND; Supplier 2: Mouser; Supplier Part Number 2: 584-ADM2914-1SRQZEP; Packing: Tube; Mounting Technology: Surface Mount; Code_JEDEC: MO-137-AB; ComponentLink1Description: Manufacturer URL; ComponentLink1URL: http://www.analog.com/en/index.html; ComponentLink2Description: Datasheet; ComponentLink2URL: http://www.analog.com/static/imported-files/data_sheets/ADM2914.pdf; ComponentLink3Description: Package Specification; ComponentLink3URL: http://www.analog.com/static/imported-files/packages/5595549651201762937RQ_16.pdf; ComponentLink4Description: URL Link1; ComponentLink4URL: Product URL:http://www.analog.com/en/special-linear-functions/comparators/adm2914/products/product.html
footprint ADI-RQ-16_N (SOP, 16-Leads, Body 4.9x3.9mm, Pitch 0.64mm, IPC Medium Density)
footprint ADI-RQ-16_L (SOP, 16-Leads, Body 4.9x3.9mm, Pitch 0.64mm, IPC High Density)
footprint ADI-RQ-16_M (SOP, 16-Leads, Body 4.9x3.9mm, Pitch 0.64mm, IPC Low Density)
pins: 1 VH1 (in) "Voltage High Input 1. If the voltage monitored by VH1 or VH2 drops below 0.5 V, an undervoltage condition is detected. Connect to VCC when not in use.", 2 VL1 (in) "Voltage Low Input 1. If the voltage monitored by VL1 or VL2 rises above 0.5 V, an overvoltage condition is detected. Tie to GND when not in use.", 3 VH2 (in) "Voltage High Input 2. If the voltage monitored by VH1 or VH2 drops below 0.5 V, an undervoltage condition is detected. Connect to VCC when not in use.", 4 VL2 (in) "Voltage Low Input 2. If the voltage monitored by VL1 or VL2 rises above 0.5 V, an overvoltage condition is detected. Tie to GND when not in use.", 5 VH3 (in) "Voltage High Input 3. The polarity of these inputs is determined by the state of the SEL pin (see Table 5). When the monitored input is configured as a positive voltage and the voltage monitored by VH3 or VH4 drops below 0.5 (See Datasheet)", 6 VL3 (in) "Voltage Low Input 3. The polarity of these inputs is determined by the state of the SEL pin (see Table 5). When the monitored input is configured as a positive voltage and the voltage monitored by VL3 or VL4 rises above 0.5 (See Datasheet)", 7 VH4 (in) "Voltage High Input 4. The polarity of these inputs is determined by the state of the SEL pin (see Table 5). When the monitored input is configured as a positive voltage and the voltage monitored by VH3 or VH4 drops below 0.5 (See Datasheet)", 8 VL4 (in) "Voltage Low Input 4. The polarity of these inputs is determined by the state of the SEL pin (see Table 5). When the monitored input is configured as a positive voltage and the voltage monitored by VL3 or VL4 rises above 0.5 (See Datasheet)", 9 GND (power) "Device Ground.", 10 REF (out) "Buffered Reference Output. This pin is a 1 V reference that is used as an offset when monitoring negative voltages. This pin can source or sink 1 mA, and drive loads up to 1 nF. Larger capacitive loads may lead to (See Datasheet)", 11 ~{OV} (oc) "Overvoltage Reset Output. O\V\ is asserted low if a negative polarity input voltage drops below its associated threshold or if a positive polarity input voltage exceeds its threshold. The ADM2914-1 allows O\V\ to be latched (See Datasheet)", 12 ~{UV} (oc) "Undervoltage Reset Output. U\V\ is asserted low if a negative polarity input voltage exceeds its associated threshold or if a positive polarity input voltage drops below its threshold. U\V\ is held low for an adjustable (See Datasheet)", 13 ~{LATCH} (in) "O\V\ Latch Bypass Input/Clear Pin. When pulled high, the O\V\ latch is cleared. When held high, the O\V\output has the same delay and output characteristics as the U\V\ output. When pulled low, the O\V\ output is latched (See Datasheet)", 14 SEL (in) "Input Polarity Select. This three-state input pin allows the polarity of VH3, VL3, VH4, and VL4 to be configured. Connect to VCC or GND, or leave open to select one of three possible input polarity configurations (see Table (See Datasheet)", 15 TIMER (in) "Adjustable Reset Delay Timer. Connect an external capacitor to the TIMER pin to program the reset timeout delay. Refer to Figure 15 in the Typical Performance Characteristics section. Connect this pin to VCC to bypass the (See Datasheet)", 16 VCC (power) "Supply Voltage. VCC operates as a direct supply for voltages up to 6 V. For voltages greater than 6 V, it operates as a shunt regulator. A dropper resistor must be used in this configuration to limit the current to less than (See Datasheet)"

## ADM2914-1SRQZEP-R7
designator U?
Quad UV / OV Positive / Negative Voltage Supervisor, 125 us Delay, Industrial, 16-pin SOP (RQ-16), Reel; Manufacturer: Analog Devices; PartNumber: ADM2914-1SRQZEP-R7; Input Range (V): 0 to VCC; Internal Reference: Yes; Supply Current: 62uA; Voltage Supply (V): 2.3 to Shunt; DatasheetVersion: Rev. B; PackageVersion: Aug-05; PackageReference: RQ-16; PackageDescription: 16-Pin Shrink Small Outline Package, Body 4.9 x 3.9 mm, Pitch 0.64 mm; Supplier 1: Digi-Key; Supplier Part Number 1: ADM2914-1SRQZEP-R7-ND; Supplier 2: Mouser; Supplier Part Number 2: 584-ADM29141SRQZEPR7; Packing: Reel; Mounting Technology: Surface Mount; Code_JEDEC: MO-137-AB; ComponentLink1Description: Manufacturer URL; ComponentLink1URL: http://www.analog.com/en/index.html; ComponentLink2Description: Datasheet; ComponentLink2URL: http://www.analog.com/static/imported-files/data_sheets/ADM2914.pdf; ComponentLink3Description: Package Specification; ComponentLink3URL: http://www.analog.com/static/imported-files/packages/5595549651201762937RQ_16.pdf; ComponentLink4Description: URL Link1; ComponentLink4URL: Product URL:http://www.analog.com/en/special-linear-functions/comparators/adm2914/products/product.html
footprint ADI-RQ-16_N (SOP, 16-Leads, Body 4.9x3.9mm, Pitch 0.64mm, IPC Medium Density)
footprint ADI-RQ-16_L (SOP, 16-Leads, Body 4.9x3.9mm, Pitch 0.64mm, IPC High Density)
footprint ADI-RQ-16_M (SOP, 16-Leads, Body 4.9x3.9mm, Pitch 0.64mm, IPC Low Density)
pins: 1 VH1 (in) "Voltage High Input 1. If the voltage monitored by VH1 or VH2 drops below 0.5 V, an undervoltage condition is detected. Connect to VCC when not in use.", 2 VL1 (in) "Voltage Low Input 1. If the voltage monitored by VL1 or VL2 rises above 0.5 V, an overvoltage condition is detected. Tie to GND when not in use.", 3 VH2 (in) "Voltage High Input 2. If the voltage monitored by VH1 or VH2 drops below 0.5 V, an undervoltage condition is detected. Connect to VCC when not in use.", 4 VL2 (in) "Voltage Low Input 2. If the voltage monitored by VL1 or VL2 rises above 0.5 V, an overvoltage condition is detected. Tie to GND when not in use.", 5 VH3 (in) "Voltage High Input 3. The polarity of these inputs is determined by the state of the SEL pin (see Table 5). When the monitored input is configured as a positive voltage and the voltage monitored by VH3 or VH4 drops below 0.5 (See Datasheet)", 6 VL3 (in) "Voltage Low Input 3. The polarity of these inputs is determined by the state of the SEL pin (see Table 5). When the monitored input is configured as a positive voltage and the voltage monitored by VL3 or VL4 rises above 0.5 (See Datasheet)", 7 VH4 (in) "Voltage High Input 4. The polarity of these inputs is determined by the state of the SEL pin (see Table 5). When the monitored input is configured as a positive voltage and the voltage monitored by VH3 or VH4 drops below 0.5 (See Datasheet)", 8 VL4 (in) "Voltage Low Input 4. The polarity of these inputs is determined by the state of the SEL pin (see Table 5). When the monitored input is configured as a positive voltage and the voltage monitored by VL3 or VL4 rises above 0.5 (See Datasheet)", 9 GND (power) "Device Ground.", 10 REF (out) "Buffered Reference Output. This pin is a 1 V reference that is used as an offset when monitoring negative voltages. This pin can source or sink 1 mA, and drive loads up to 1 nF. Larger capacitive loads may lead to (See Datasheet)", 11 ~{OV} (oc) "Overvoltage Reset Output. O\V\ is asserted low if a negative polarity input voltage drops below its associated threshold or if a positive polarity input voltage exceeds its threshold. The ADM2914-1 allows O\V\ to be latched (See Datasheet)", 12 ~{UV} (oc) "Undervoltage Reset Output. U\V\ is asserted low if a negative polarity input voltage exceeds its associated threshold or if a positive polarity input voltage drops below its threshold. U\V\ is held low for an adjustable (See Datasheet)", 13 ~{LATCH} (in) "O\V\ Latch Bypass Input/Clear Pin. When pulled high, the O\V\ latch is cleared. When held high, the O\V\output has the same delay and output characteristics as the U\V\ output. When pulled low, the O\V\ output is latched (See Datasheet)", 14 SEL (in) "Input Polarity Select. This three-state input pin allows the polarity of VH3, VL3, VH4, and VL4 to be configured. Connect to VCC or GND, or leave open to select one of three possible input polarity configurations (see Table (See Datasheet)", 15 TIMER (in) "Adjustable Reset Delay Timer. Connect an external capacitor to the TIMER pin to program the reset timeout delay. Refer to Figure 15 in the Typical Performance Characteristics section. Connect this pin to VCC to bypass the (See Datasheet)", 16 VCC (power) "Supply Voltage. VCC operates as a direct supply for voltages up to 6 V. For voltages greater than 6 V, it operates as a shunt regulator. A dropper resistor must be used in this configuration to limit the current to less than (See Datasheet)"